# EAGLE library part APXW005A0X3-SRZ (library APXW005A0X3-SRZ)
GE CRITICAL POWER - APXW005A0X3-SRZ - DC TO DC CONVERT, 3V TO 18V, 5A TO 2.5A Source: Datasheet <https://componentsearchengine.com/Datasheets/1/APXW005A0X3-SRZ.pdf>
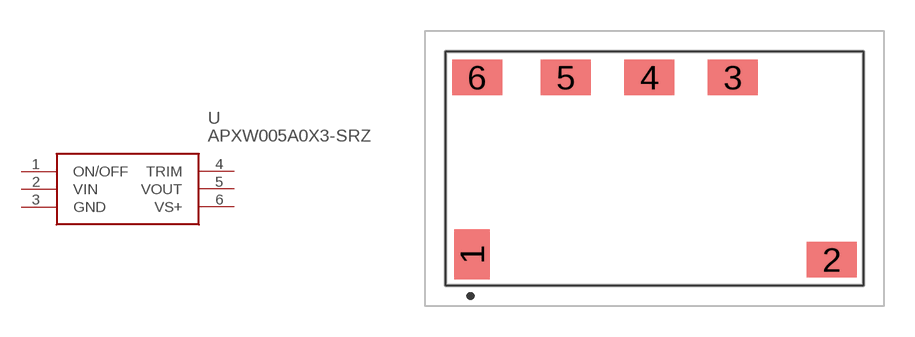
[diagram p0: symbol with the pads of APXW005A0X3SRZ; footprint APXW005A0X3SRZ]

Designator prefix U

## APXW005A0X3-SRZ (Description: GE CRITICAL POWER - APXW005A0X3-SRZ - DC TO DC CONVERT, 3V TO 18V, 5A TO 2.5A; Height: 8mm; Manufacturer_Name: GE Critical Power; Manufacturer_Part_Number: APXW005A0X3-SRZ; Mouser_Part_Number: 894-APXW005A0X3-SRZ; Mouser_Price-Stock: https://www.mouser.com/Search/Refine.aspx?Keyword=894-APXW005A0X3-SRZ)  [APXW005A0X3SRZ]
1  ON/OFF
2  VIN
3  GND
4  TRIM
5  VOUT
6  VS+

## Footprint APXW005A0X3SRZ (pad centres in mm)
APXW005A0X3-SRZ
smd 1.73 x 2.44: 1 -8.89,-4.195
smd 2.44 x 1.73: 2 8.64,-4.445; 3 3.81,4.445; 4 -0.25,4.445; 5 -4.32,4.445; 6 -8.64,4.445